# Altium footprint library BB-HEADER-DUAL-P01-P22.PcbLib: 1 footprints
Each footprint in its own frame and in the unit in brackets; x right, y up, seen from the top. Pads: shape width x height; smd on the part's side, far side on the other; paste and mask are expansions set on the pad; w line width, h text height; cw(c..) or ccw(c..) is an arc to the next point about the centre after c.
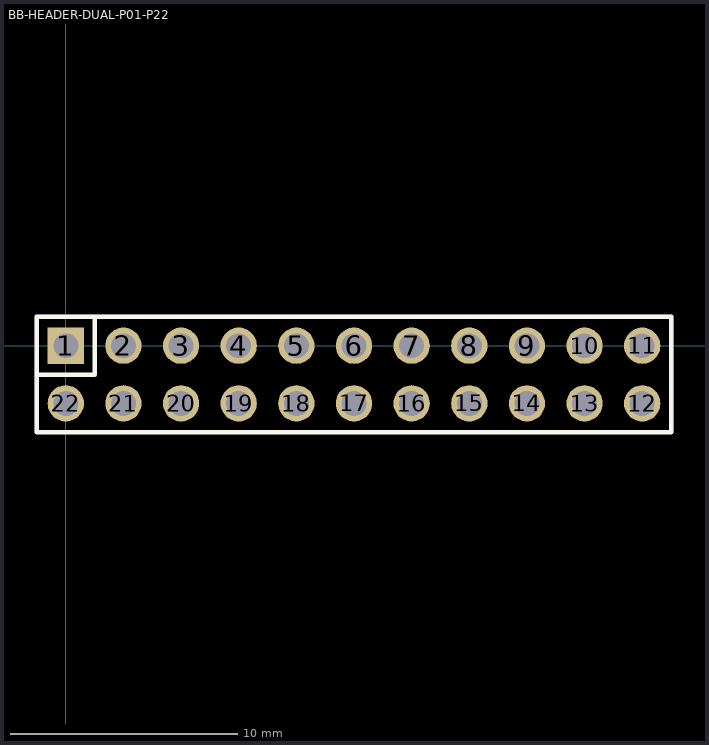
[diagram p0: the footprint, top view; thin cyan lines are the x and y axes]

## BB-HEADER-DUAL-P01-P22 [mm] "Dual Row BB Header, Vertical, Male, 0.1\"2.54mm,P01-P22"
height 11.6
pads (22):
  rect 1.6x1.6 hole 1.1: 1(0,0)
  round 1.6 hole 1.1: 2(2.54,0) 3(5.08,0) 4(7.62,0) 5(10.16,0) 6(12.7,0) 7(15.24,0) 8(17.78,0) 9(20.32,0) 10(22.86,0) 11(25.4,0)
  round 1.6 hole 1.1 unplated: 12(25.4,-2.54) 13(22.86,-2.54) 14(20.32,-2.54) 15(17.78,-2.54) 16(15.24,-2.54) 17(12.7,-2.54) 18(10.16,-2.54) 19(7.62,-2.54) 20(5.08,-2.54) 21(2.54,-2.54) 22(0,-2.54)
Top Overlay:
  lines w0.2: -1.27,-1.27 1.27,-1.27 1.27,1.27 ; -1.27,-3.81 26.67,-3.81 26.67,1.27 0.635,1.27 -1.27,1.27 -1.27,-3.81
Mechanical 13:
  lines w0.1: -1.27,-3.81 -1.27,1.27 26.67,1.27 26.67,-3.81 -1.27,-3.81
Mechanical 15:
  lines w0.1: -1.32,-3.81 -1.32,1.32 26.72,1.32 26.72,-3.81 -1.32,-3.81
3D body: height 8.54, standoff -2.96, extent -1.27,-1.27 26.67,1.27
3D body: height 8.54, standoff -2.96, extent -1.27,-3.81 26.67,-1.27